# Altium footprint library Armadeus.PcbLib: 5 footprints
Each footprint in its own frame and in the unit in brackets; x right, y up, seen from the top. Pads: shape width x height; smd on the part's side, far side on the other; paste and mask are expansions set on the pad; w line width, h text height; cw(c..) or ccw(c..) is an arc to the next point about the centre after c.
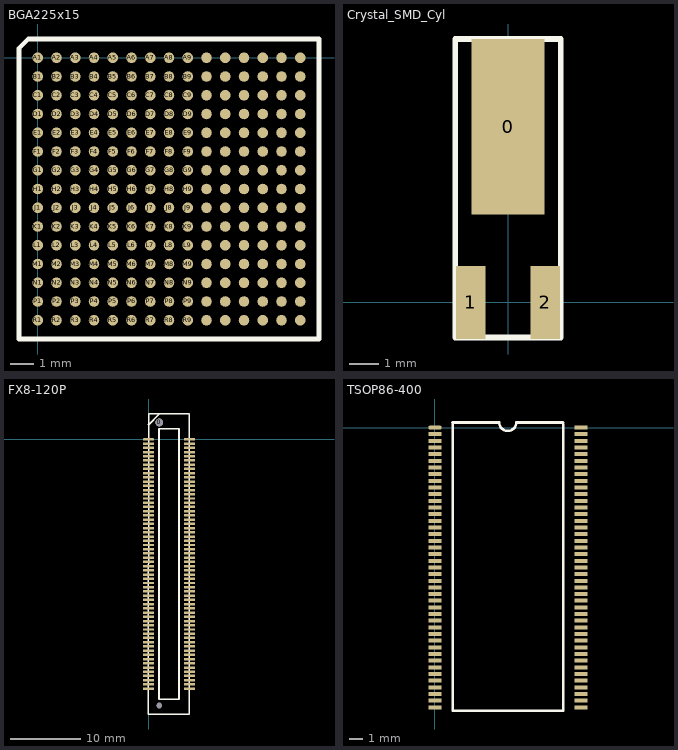
[diagram p0: the footprints below, top view; thin cyan lines are the x and y axes]

## BGA225x15 [mm]
pads (225):
  round 0.45 smd: A1(0,0) A2(0.8,0) A3(1.6,0) A4(2.4,0) A5(3.2,0) A6(4,0) A7(4.8,0) A8(5.6,0) A9(6.4,0) A10(7.2,0) A11(8,0) A12(8.8,0) A13(9.6,0) A14(10.4,0) A15(11.2,0) B1(0,-0.8) B2(0.8,-0.8) B3(1.6,-0.8) B4(2.4,-0.8) B5(3.2,-0.8) B6(4,-0.8) B7(4.8,-0.8) B8(5.6,-0.8) B9(6.4,-0.8) B10(7.2,-0.8) B11(8,-0.8) B12(8.8,-0.8) B13(9.6,-0.8) B14(10.4,-0.8) B15(11.2,-0.8) C1(0,-1.6) C2(0.8,-1.6) C3(1.6,-1.6) C4(2.4,-1.6) C5(3.2,-1.6) C6(4,-1.6) C7(4.8,-1.6) C8(5.6,-1.6) C9(6.4,-1.6) C10(7.2,-1.6) C11(8,-1.6) C12(8.8,-1.6) C13(9.6,-1.6) C14(10.4,-1.6) C15(11.2,-1.6) D1(0,-2.4) D2(0.8,-2.4) D3(1.6,-2.4) D4(2.4,-2.4) D5(3.2,-2.4) D6(4,-2.4) D7(4.8,-2.4) D8(5.6,-2.4) D9(6.4,-2.4) D10(7.2,-2.4) D11(8,-2.4) D12(8.8,-2.4) D13(9.6,-2.4) D14(10.4,-2.4) D15(11.2,-2.4) E1(0,-3.2) E2(0.8,-3.2) E3(1.6,-3.2) E4(2.4,-3.2) E5(3.2,-3.2) E6(4,-3.2) E7(4.8,-3.2) E8(5.6,-3.2) E9(6.4,-3.2) E10(7.2,-3.2) E11(8,-3.2) E12(8.8,-3.2) E13(9.6,-3.2) E14(10.4,-3.2) E15(11.2,-3.2) F1(0,-4) F2(0.8,-4) F3(1.6,-4) F4(2.4,-4) F5(3.2,-4) F6(4,-4) F7(4.8,-4) F8(5.6,-4) F9(6.4,-4) F10(7.2,-4) F11(8,-4) F12(8.8,-4) F13(9.6,-4) F14(10.4,-4) F15(11.2,-4) G1(0,-4.8) G2(0.8,-4.8) G3(1.6,-4.8) G4(2.4,-4.8) G5(3.2,-4.8) G6(4,-4.8) G7(4.8,-4.8) G8(5.6,-4.8) G9(6.4,-4.8) G10(7.2,-4.8) G11(8,-4.8) G12(8.8,-4.8) G13(9.6,-4.8) G14(10.4,-4.8) G15(11.2,-4.8) H1(0,-5.6) H2(0.8,-5.6) H3(1.6,-5.6) H4(2.4,-5.6) H5(3.2,-5.6) H6(4,-5.6) H7(4.8,-5.6) H8(5.6,-5.6) H9(6.4,-5.6) H10(7.2,-5.6) H11(8,-5.6) H12(8.8,-5.6) H13(9.6,-5.6) H14(10.4,-5.6) H15(11.2,-5.6) J1(0,-6.4) J2(0.8,-6.4) J3(1.6,-6.4) J4(2.4,-6.4) J5(3.2,-6.4) J6(4,-6.4) J7(4.8,-6.4) J8(5.6,-6.4) J9(6.4,-6.4) J10(7.2,-6.4) J11(8,-6.4) J12(8.8,-6.4) J13(9.6,-6.4) J14(10.4,-6.4) J15(11.2,-6.4) K1(0,-7.2) K2(0.8,-7.2) K3(1.6,-7.2) K4(2.4,-7.2) K5(3.2,-7.2) K6(4,-7.2) K7(4.8,-7.2) K8(5.6,-7.2) K9(6.4,-7.2) K10(7.2,-7.2) K11(8,-7.2) K12(8.8,-7.2) K13(9.6,-7.2) K14(10.4,-7.2) K15(11.2,-7.2) L1(0,-8) L2(0.8,-8) L3(1.6,-8) L4(2.4,-8) L5(3.2,-8) L6(4,-8) L7(4.8,-8) L8(5.6,-8) L9(6.4,-8) L10(7.2,-8) L11(8,-8) L12(8.8,-8) L13(9.6,-8) L14(10.4,-8) L15(11.2,-8) M1(0,-8.8) M2(0.8,-8.8) M3(1.6,-8.8) M4(2.4,-8.8) M5(3.2,-8.8) M6(4,-8.8) M7(4.8,-8.8) M8(5.6,-8.8) M9(6.4,-8.8) M10(7.2,-8.8) M11(8,-8.8) M12(8.8,-8.8) M13(9.6,-8.8) M14(10.4,-8.8) M15(11.2,-8.8) N1(0,-9.6) N2(0.8,-9.6) N3(1.6,-9.6) N4(2.4,-9.6) N5(3.2,-9.6) N6(4,-9.6) N7(4.8,-9.6) N8(5.6,-9.6) N9(6.4,-9.6) N10(7.2,-9.6) N11(8,-9.6) N12(8.8,-9.6) N13(9.6,-9.6) N14(10.4,-9.6) N15(11.2,-9.6) P1(0,-10.4) P2(0.8,-10.4) P3(1.6,-10.4) P4(2.4,-10.4) P5(3.2,-10.4) P6(4,-10.4) P7(4.8,-10.4) P8(5.6,-10.4) P9(6.4,-10.4) P10(7.2,-10.4) P11(8,-10.4) P12(8.8,-10.4) P13(9.6,-10.4) P14(10.4,-10.4) P15(11.2,-10.4) R1(0,-11.2) R2(0.8,-11.2) R3(1.6,-11.2) R4(2.4,-11.2) R5(3.2,-11.2) R6(4,-11.2) R7(4.8,-11.2) R8(5.6,-11.2) R9(6.4,-11.2) R10(7.2,-11.2) R11(8,-11.2) R12(8.8,-11.2) R13(9.6,-11.2) R14(10.4,-11.2) R15(11.2,-11.2)
Top Overlay:
  lines w0.2: -0.8,-12 -0.8,0.4 -0.4,0.8 12,0.8 12,-12 -0.8,-12

## Crystal_SMD_Cyl [mm]
pads (3):
  rect 2.5x6 smd: 0(0,6)
  rect 1x2.5 smd: 1(-1.27,0) 2(1.27,0)
Top Overlay:
  lines w0.2: -1.8,-1.2 -1.8,9 1.8,9 1.8,-1.2 -1.8,-1.2

## FX8-120P [mm]
pads (122):
  round 0.7 hole 0.8: 0(1.5,-37.8)
  round 1.1 hole 1.1: 0(1.5,2.4)
  oval 1.6x0.35 smd: 1(0,0)
  rect 1.6x0.35 smd: 2(0,-0.6) 3(0,-1.2) 4(0,-1.8) 5(0,-2.4) 6(0,-3) 7(0,-3.6) 8(0,-4.2) 9(0,-4.8) 10(0,-5.4) 11(0,-6) 12(0,-6.6) 13(0,-7.2) 14(0,-7.8) 15(0,-8.4) 16(0,-9) 17(0,-9.6) 18(0,-10.2) 19(0,-10.8) 20(0,-11.4) 21(0,-12) 22(0,-12.6) 23(0,-13.2) 24(0,-13.8) 25(0,-14.4) 26(0,-15) 27(0,-15.6) 28(0,-16.2) 29(0,-16.8) 30(0,-17.4) 31(0,-18) 32(0,-18.6) 33(0,-19.2) 34(0,-19.8) 35(0,-20.4) 36(0,-21) 37(0,-21.6) 38(0,-22.2) 39(0,-22.8) 40(0,-23.4) 41(0,-24) 42(0,-24.6) 43(0,-25.2) 44(0,-25.8) 45(0,-26.4) 46(0,-27) 47(0,-27.6) 48(0,-28.2) 49(0,-28.8) 50(0,-29.4) 51(0,-30) 52(0,-30.6) 53(0,-31.2) 54(0,-31.8) 55(0,-32.4) 56(0,-33) 57(0,-33.6) 58(0,-34.2) 59(0,-34.8) 60(0,-35.4) 61(5.8,-35.4) 62(5.8,-34.8) 63(5.8,-34.2) 64(5.8,-33.6) 65(5.8,-33) 66(5.8,-32.4) 67(5.8,-31.8) 68(5.8,-31.2) 69(5.8,-30.6) 70(5.8,-30) 71(5.8,-29.4) 72(5.8,-28.8) 73(5.8,-28.2) 74(5.8,-27.6) 75(5.8,-27) 76(5.8,-26.4) 77(5.8,-25.8) 78(5.8,-25.2) 79(5.8,-24.6) 80(5.8,-24) 81(5.8,-23.4) 82(5.8,-22.8) 83(5.8,-22.2) 84(5.8,-21.6) 85(5.8,-21) 86(5.8,-20.4) 87(5.8,-19.8) 88(5.8,-19.2) 89(5.8,-18.6) 90(5.8,-18) 91(5.8,-17.4) 92(5.8,-16.8) 93(5.8,-16.2) 94(5.8,-15.6) 95(5.8,-15) 96(5.8,-14.4) 97(5.8,-13.8) 98(5.8,-13.2) 99(5.8,-12.6) 100(5.8,-12) 101(5.8,-11.4) 102(5.8,-10.8) 103(5.8,-10.2) 104(5.8,-9.6) 105(5.8,-9) 106(5.8,-8.4) 107(5.8,-7.8) 108(5.8,-7.2) 109(5.8,-6.6) 110(5.8,-6) 111(5.8,-5.4) 112(5.8,-4.8) 113(5.8,-4.2) 114(5.8,-3.6) 115(5.8,-3) 116(5.8,-2.4) 117(5.8,-1.8) 118(5.8,-1.2) 119(5.8,-0.6) 120(5.8,0)
Top Overlay:
  lines w0.2: -0.03,-39 0,3.6 5.8,3.6 5.8,-39 -0.03,-39
  lines w0.254: 0,2.1 1.5,3.6 ; 1.5,-36.9 1.5,1.5 4.3,1.5 4.3,-36.9 1.5,-36.9

## PCBComponent_1 [mm]

## TSOP86-400 [mm]
pads (86):
  oval 1x0.3 smd: 1(0,0)
  rect 1x0.3 smd: 2(0,-0.5) 3(0,-1) 4(0,-1.5) 5(0,-2) 6(0,-2.5) 7(0,-3) 8(0,-3.5) 9(0,-4) 10(0,-4.5) 11(0,-5) 12(0,-5.5) 13(0,-6) 14(0,-6.5) 15(0,-7) 16(0,-7.5) 17(0,-8) 18(0,-8.5) 19(0,-9) 20(0,-9.5) 21(0,-10) 22(0,-10.5) 23(0,-11) 24(0,-11.5) 25(0,-12) 26(0,-12.5) 27(0,-13) 28(0,-13.5) 29(0,-14) 30(0,-14.5) 31(0,-15) 32(0,-15.5) 33(0,-16) 34(0,-16.5) 35(0,-17) 36(0,-17.5) 37(0,-18) 38(0,-18.5) 39(0,-19) 40(0,-19.5) 41(0,-20) 42(0,-20.5) 43(0,-21) 44(10.96,-21) 45(10.96,-20.5) 46(10.96,-20) 47(10.96,-19.5) 48(10.96,-19) 49(10.96,-18.5) 50(10.96,-18) 51(10.96,-17.5) 52(10.96,-17) 53(10.96,-16.5) 54(10.96,-16) 55(10.96,-15.5) 56(10.96,-15) 57(10.96,-14.5) 58(10.96,-14) 59(10.96,-13.5) 60(10.96,-13) 61(10.96,-12.5) 62(10.96,-12) 63(10.96,-11.5) 64(10.96,-11) 65(10.96,-10.5) 66(10.96,-10) 67(10.96,-9.5) 68(10.96,-9) 69(10.96,-8.5) 70(10.96,-8) 71(10.96,-7.5) 72(10.96,-7) 73(10.96,-6.5) 74(10.96,-6) 75(10.96,-5.5) 76(10.96,-5) 77(10.96,-4.5) 78(10.96,-4) 79(10.96,-3.5) 80(10.96,-3) 81(10.96,-2.5) 82(10.96,-2) 83(10.96,-1.5) 84(10.96,-1) 85(10.96,-0.5) 86(10.96,0)
Top Overlay:
  lines w0.2: 1.314,0.381 4.826,0.381 ccw(c5.461,0.381) 6.096,0.381 9.604,0.381 ; 1.335,0.25 1.335,-21.25 9.625,-21.25 9.625,0.25